# EAGLE library part IS61LV25616AL (library MakBit)
ISSI IS61LV25616AL CMOS SRAM 256K x 16 HIGH SPEED ASYNCHRONOUS CMOS STATIC RAM WITH 3.3V SUPPLY. High-speed access time: 10,12 TTL Compatible Inputs and Outputs No Clock or Refresh required Single 3.3V Supply
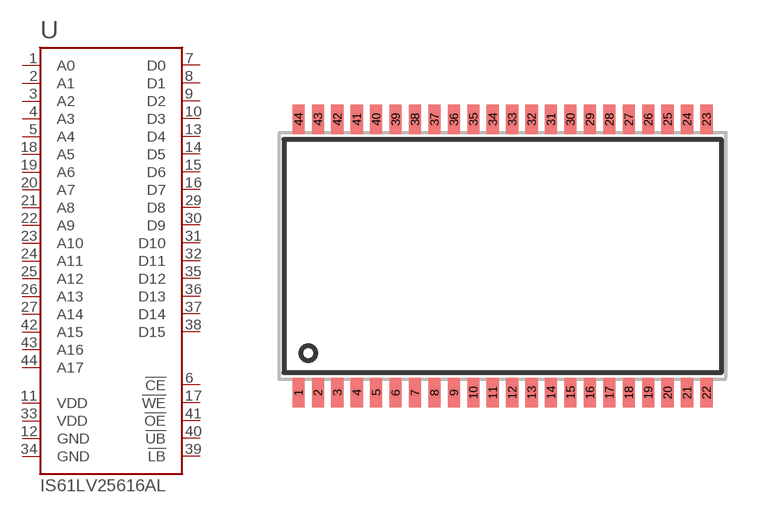
[diagram p11: symbol with the pads of TSOP2-44-400BF; footprint TSOP2-44-400BF]

Designator prefix U

## IS61LV25616AL  [TSOP2-44-400BF]
1  A0  in
2  A1  in
3  A2  in
4  A3  in
5  A4  in
6  !CE  in
7  D0
8  D1
9  D2
10  D3
11  VDD  pwr
12  GND  pwr
13  D4
14  D5
15  D6
16  D7
17  !WE  in
18  A5  in
19  A6  in
20  A7  in
21  A8  in
22  A9  in
23  A10  in
24  A11  in
25  A12  in
26  A13  in
27  A14  in
29  D8
30  D9
31  D10
32  D11
33  VDD  pwr
34  GND  pwr
35  D12
36  D13
37  D14
38  D15
39  !LB  in
40  !UB  in
41  !OE  in
42  A15  in
43  A16  in
44  A17  in

## Footprint TSOP2-44-400BF (pad centres in mm)
44 PIN TSOP2-400BF Source: SAMSUNG K6R4008V1C K6R4008V1C-C/C-L, K6R4008V1C-I/C-P, IS61LV25616AL 18.4 x 10.2 mm
smd 0.5 x 1.2: 1 -8.4,-5.627; 2 -7.6,-5.627; 3 -6.8,-5.627; 4 -6,-5.627; 5 -5.2,-5.627; 6 -4.4,-5.627; 7 -3.6,-5.627; 8 -2.8,-5.627; 9 -2,-5.627; 10 -1.2,-5.627; 11 -0.4,-5.627; 12 0.4,-5.627; 13 1.2,-5.627; 14 2,-5.627; 15 2.8,-5.627; 16 3.6,-5.627; 17 4.4,-5.627; 18 5.2,-5.627; 19 6,-5.627; 20 6.8,-5.627; 21 7.6,-5.627; 22 8.4,-5.627; 23 8.4,5.627; 24 7.6,5.627; 25 6.8,5.627; 26 6,5.627; 27 5.2,5.627; 28 4.4,5.627; 29 3.6,5.627; 30 2.8,5.627; 31 2,5.627; 32 1.2,5.627; 33 0.4,5.627; 34 -0.4,5.627; 35 -1.2,5.627; 36 -2,5.627; 37 -2.8,5.627; 38 -3.6,5.627; 39 -4.4,5.627; 40 -5.2,5.627; 41 -6,5.627; 42 -6.8,5.627; 43 -7.6,5.627; 44 -8.4,5.627